# EAGLE library part W25Q80BV (library charlespax)
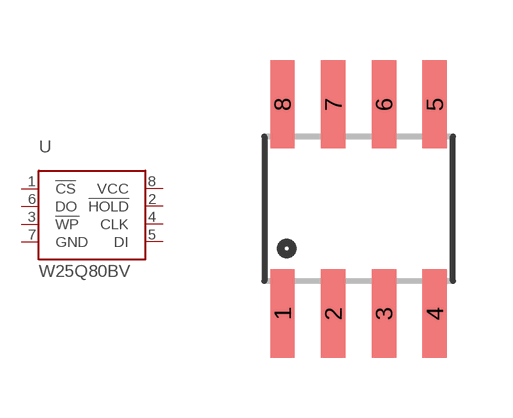
[diagram p5: symbol with the pads of SOIC8; footprint SOIC8]

Designator prefix -

## W25Q80BV  [SOIC8]
1  !CS
2  !HOLD
3  !WP
4  CLK
5  DI
6  DO
7  GND
8  VCC

## Footprint SOIC8 (pad centres in mm)
smd 0.61 x 2.21: 1 -1.905,-2.616; 2 -0.635,-2.616; 3 0.635,-2.616; 4 1.905,-2.616; 5 1.905,2.616; 6 0.635,2.616; 7 -0.635,2.616; 8 -1.905,2.616